# Altium schematic symbol library 2020-02-13_23-03-03.SchLib: 2 symbols
Pins are listed as number, name and electrical type; pins without a type are passive.

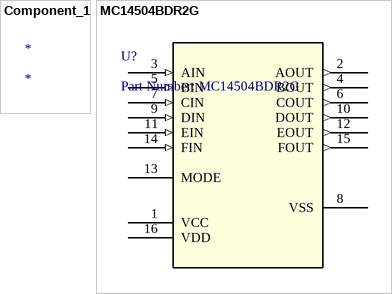
[diagram p0: symbols Component_1 to MC14504BDR2G]

## Component_1
designator *

## MC14504BDR2G
designator U?, comment Part Number: MC14504BDR2G
No Description Available; Vendor: ON Semiconductor; Copyright: Copyright (C) 2016 Accelerated Designs. All rights reserved; Manufacturer_Part_Number: MC14504BDR2G; RefDes: RefDes; Type: DEV; Value: Value
footprint SOIC-16
pins: 1 VCC (power), 2 AOUT (out), 3 AIN (in), 4 BOUT (out), 5 BIN (in), 6 COUT (out), 7 CIN (in), 8 VSS (power), 9 DIN (in), 10 DOUT (out), 11 EIN (in), 12 EOUT (out), 13 MODE, 14 FIN (in), 15 FOUT (out), 16 VDD (power)